# EAGLE library part 692121330100 (library USB3IO)
WR-COM USB 3.0 REVERSE HORIZONTAL TYPE A WITH OFFSET1.75mm=>Code : Con_I-O_COM_USB-3.0_A_692121330100 <http://katalog.we-online.de/media/images/eican/Con_I-O_COM_USB-3.0_A_692121330100_pf2.jpg> Details see: http://katalog.we-online.de/en/em/692_121_330_100 Created 2014-07-09, Karrer Zheng 2014 (C) Würth Elektronik
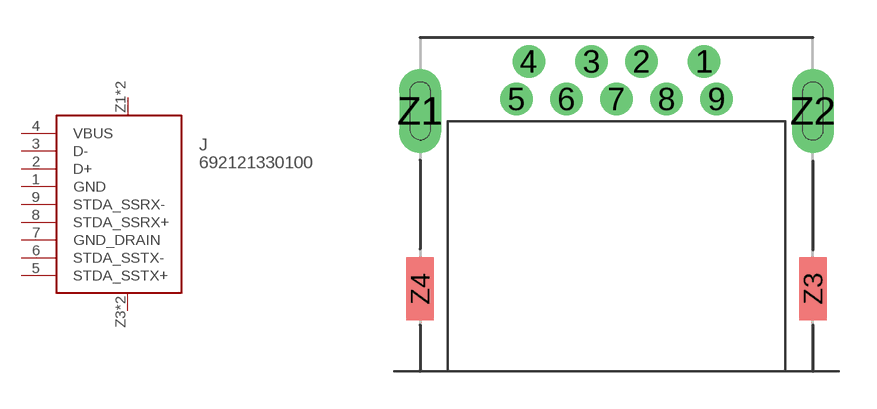
[diagram p84: symbol with the pads of 692121330100; footprint 692121330100]

Designator prefix J

## 692121330100  [692121330100]
1  GND
2  D+
3  D-
4  VBUS
5  STDA_SSTX+
6  STDA_SSTX-
7  GND_DRAIN
8  STDA_SSRX+
9  STDA_SSRX-
Z1  Z1
Z2  Z1
Z3  Z2
Z4  Z2

## Footprint 692121330100 (pad centres in mm)
WR-COM USB 3.0 REVERSE HORIZONTAL TYPE A WITH OFFSET1.75mm
drill 0.7 pad 1.3: 1 3.5,0; 2 1,0; 3 -1,0; 4 -3.5,0; 5 -4,-1.5; 6 -2,-1.5; 7 0,-1.5; 8 2,-1.5; 9 4,-1.5
drill 0.8 pad 1.676 long: Z1 -7.85,-1.98; Z2 7.85,-1.98
smd 1.1 x 2.5: Z3 7.85,-9.08; Z4 -7.85,-9.08